# EAGLE library part CTS753DRT18 (library resistor-net)
Network Resistor CTS 753 Series Leadless Surface Mount Source: http://www.ctscorp.com/components/Datasheets/753.pdf Distributor: Digi Key
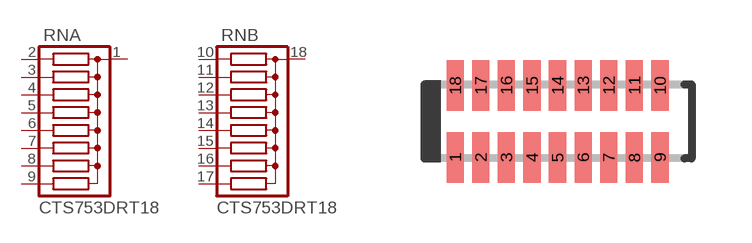
[diagram p13: symbol with the pads of CTS753DRT18; footprint CTS753DRT18]

Designator prefix RN; gates A=RN1X8 B=RN1X8

## CTS753DRT18 (OC_FARNELL: unknown; OC_NEWARK: unknown)  [CTS753DRT18]
1  A:C  pas
2  A:1  pas
3  A:2  pas
4  A:3  pas
5  A:4  pas
6  A:5  pas
7  A:6  pas
8  A:7  pas
9  A:8  pas
10  B:1  pas
11  B:2  pas
12  B:3  pas
13  B:4  pas
14  B:5  pas
15  B:6  pas
16  B:7  pas
17  B:8  pas
18  B:C  pas

## Footprint CTS753DRT18 (pad centres in mm)
Network Resistor Leadless Surface Mount Series 753 Source: http://www.ctscorp.com/components/Datasheets/753.pdf
smd 0.43 x 1.27: 1 -2.56,-0.9; 2 -1.92,-0.9; 3 -1.28,-0.9; 4 -0.64,-0.9; 5 0,-0.9; 6 0.64,-0.9; 7 1.28,-0.9; 8 1.92,-0.9; 9 2.56,-0.9; 10 2.56,0.9; 11 1.92,0.9; 12 1.28,0.9; 13 0.64,0.9; 14 0,0.9; 15 -0.64,0.9; 16 -1.28,0.9; 17 -1.92,0.9; 18 -2.56,0.9